# Altium footprint library con-thomas-betts.PCBLIB: 58 footprints (part 3 of 4)
Each footprint in its own frame and in the unit in brackets; x right, y up, seen from the top. Pads: shape width x height; smd on the part's side, far side on the other; paste and mask are expansions set on the pad; w line width, h text height; cw(c..) or ccw(c..) is an arc to the next point about the centre after c.
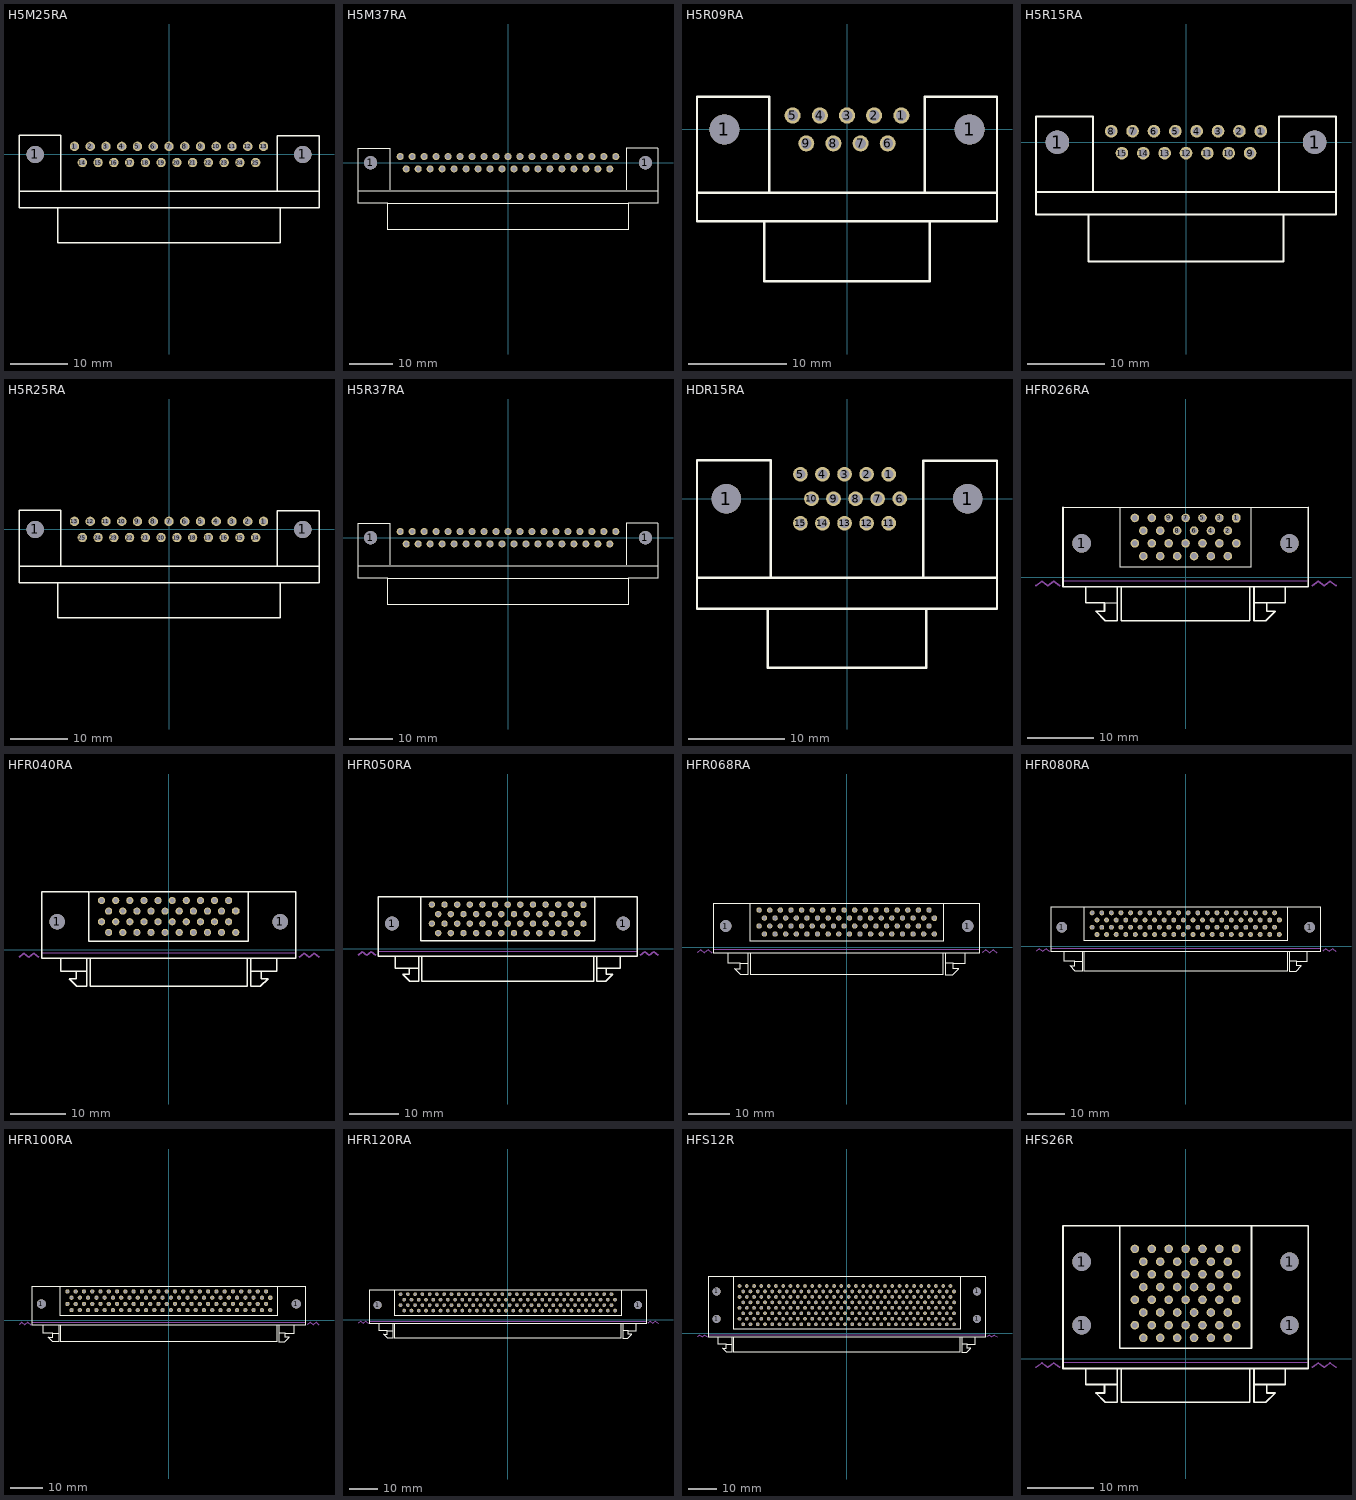
[diagram p2: the footprints below, top view; thin cyan lines are the x and y axes]

## H5M25RA [mil]
pads (27):
  round 120 hole 120: 1(-926,0) 1(926,0)
  round 64.5 hole 43: 1(-654,56) 2(-545,56) 3(-436,56) 4(-327,56) 5(-218,56) 6(-109,56) 7(0,56) 8(109,56) 9(218,56) 10(327,56) 11(436,56) 12(545,56) 13(654,56) 14(-599.5,-56) 15(-490.5,-56) 16(-381.5,-56) 17(-272.5,-56) 18(-163.5,-56) 19(-54.5,-56) 20(54.5,-56) 21(163.5,-56) 22(272.5,-56) 23(381.5,-56) 24(490.5,-56) 25(599.5,-56)
Top Overlay:
  lines w10: -1038,-253.5 1038,-253.5 ; -748,-248 -748,131.5 -1038,131.5 -1038,-368.5 -769,-368.5 ; 748,-248 748,130.5 1038,130.5 1038,-368.5 769,-368.5 ; -769,-368.5 -769,-609.5 769,-609.5 769,-368.5 ; -769,-368.5 769,-368.5

## H5M37RA [mil]
pads (39):
  round 120 hole 120: 1(-1250,0) 1(1250,0)
  round 64.5 hole 43: 1(-981,56) 2(-872,56) 3(-763,56) 4(-654,56) 5(-545,56) 6(-436,56) 7(-327,56) 8(-218,56) 9(-109,56) 10(0,56) 11(109,56) 12(218,56) 13(327,56) 14(436,56) 15(545,56) 16(654,56) 17(763,56) 18(872,56) 19(981,56) 20(-926.5,-56) 21(-817.5,-56) 22(-708.5,-56) 23(-599.5,-56) 24(-490.5,-56) 25(-381.5,-56) 26(-272.5,-56) 27(-163.5,-56) 28(-54.5,-56) 29(54.5,-56) 30(163.5,-56) 31(272.5,-56) 32(381.5,-56) 33(490.5,-56) 34(599.5,-56) 35(708.5,-56) 36(817.5,-56) 37(926.5,-56)
Top Overlay:
  lines w10: -1365,-253.5 1365,-253.5 ; -1075,-248 -1075,131.5 -1365,131.5 -1365,-368.5 -1096,-368.5 ; 1075,-248 1075,130.5 1365,130.5 1365,-368.5 1096,-368.5 ; -1096,-368.5 -1096,-609.5 1096,-609.5 1096,-368.5 ; -1096,-368.5 1096,-368.5

## H5R09RA [mil]
pads (11):
  round 120 hole 120: 1(-492,0) 1(492,0)
  round 64.5 hole 43: 1(218,56) 2(109,56) 3(0,56) 4(-109,56) 5(-218,56) 6(163.5,-56) 7(54.5,-56) 8(-54.5,-56) 9(-163.5,-56)
Top Overlay:
  lines w10: -602,-253.5 602,-253.5 ; -312,-248 -312,131.5 -602,131.5 -602,-368.5 -333,-368.5 ; 312,-248 312,130.5 602,130.5 602,-368.5 333,-368.5 ; -333,-368.5 -333,-609.5 333,-609.5 333,-368.5 ; -333,-368.5 333,-368.5

## H5R15RA [mil]
pads (17):
  round 120 hole 120: 1(-656,0) 1(656,0)
  round 64.5 hole 43: 1(381.5,56) 2(272.5,56) 3(163.5,56) 4(54.5,56) 5(-54.5,56) 6(-163.5,56) 7(-272.5,56) 8(-381.5,56) 9(327,-56) 10(218,-56) 11(109,-56) 12(0,-56) 13(-109,-56) 14(-218,-56) 15(-327,-56)
Top Overlay:
  lines w10: -765.5,-253.5 765.5,-253.5 ; -475.5,-248 -475.5,131.5 -765.5,131.5 -765.5,-368.5 -496.5,-368.5 ; 475.5,-248 475.5,130.5 765.5,130.5 765.5,-368.5 496.5,-368.5 ; -496.5,-368.5 -496.5,-609.5 496.5,-609.5 496.5,-368.5 ; -496.5,-368.5 496.5,-368.5

## H5R25RA [mil]
pads (27):
  round 120 hole 120: 1(-926,0) 1(926,0)
  round 64.5 hole 43: 1(654,56) 2(545,56) 3(436,56) 4(327,56) 5(218,56) 6(109,56) 7(0,56) 8(-109,56) 9(-218,56) 10(-327,56) 11(-436,56) 12(-545,56) 13(-654,56) 14(599.5,-56) 15(490.5,-56) 16(381.5,-56) 17(272.5,-56) 18(163.5,-56) 19(54.5,-56) 20(-54.5,-56) 21(-163.5,-56) 22(-272.5,-56) 23(-381.5,-56) 24(-490.5,-56) 25(-599.5,-56)
Top Overlay:
  lines w10: -1038,-253.5 1038,-253.5 ; -748,-248 -748,131.5 -1038,131.5 -1038,-368.5 -769,-368.5 ; 748,-248 748,130.5 1038,130.5 1038,-368.5 769,-368.5 ; -769,-368.5 -769,-609.5 769,-609.5 769,-368.5 ; -769,-368.5 769,-368.5

## H5R37RA [mil]
pads (39):
  round 120 hole 120: 1(-1250,0) 1(1250,0)
  round 64.5 hole 43: 1(981,56) 2(872,56) 3(763,56) 4(654,56) 5(545,56) 6(436,56) 7(327,56) 8(218,56) 9(109,56) 10(0,56) 11(-109,56) 12(-218,56) 13(-327,56) 14(-436,56) 15(-545,56) 16(-654,56) 17(-763,56) 18(-872,56) 19(-981,56) 20(926.5,-56) 21(817.5,-56) 22(708.5,-56) 23(599.5,-56) 24(490.5,-56) 25(381.5,-56) 26(272.5,-56) 27(163.5,-56) 28(54.5,-56) 29(-54.5,-56) 30(-163.5,-56) 31(-272.5,-56) 32(-381.5,-56) 33(-490.5,-56) 34(-599.5,-56) 35(-708.5,-56) 36(-817.5,-56) 37(-926.5,-56)
Top Overlay:
  lines w10: -1365,-253.5 1365,-253.5 ; -1075,-248 -1075,131.5 -1365,131.5 -1365,-368.5 -1096,-368.5 ; 1075,-248 1075,130.5 1365,130.5 1365,-368.5 1096,-368.5 ; -1096,-368.5 -1096,-609.5 1096,-609.5 1096,-368.5 ; -1096,-368.5 1096,-368.5

## HDR15RA [mil]
pads (17):
  round 120 hole 120: 1(-492,0) 1(492,0)
  round 60 hole 40: 1(170,100) 2(80,100) 3(-10,100) 4(-100,100) 5(-190,100) 6(215,0) 7(125,0) 8(35,0) 9(-55,0) 10(-145,0) 11(170,-100) 12(80,-100) 13(-10,-100) 14(-100,-100) 15(-190,-100)
Top Overlay:
  lines w10: -312,-318 -312,156.5 -612,156.5 -612,-323.5 ; 312,-318 312,155.5 612,155.5 612,-323.5 ; -612,-323.5 -612,-448.5 -323,-448.5 ; -612,-323.5 612,-323.5 ; -323,-448.5 -323,-689.5 323,-689.5 323,-448.5 ; -323,-448.5 323,-448.5 ; 323,-448.5 612,-448.5 612,-323.5

## HFR026RA [mil]
pads (28):
  round 109 hole 109: 1(-615,199.61) 1(615,199.61)
  oct 51x51 hole 34: 1(300,350)
  round 51 hole 34: 2(250,274.8) 3(200,350) 4(150,274.8) 5(100,350) 6(50,274.8) 7(0,350) 8(-50,274.8) 9(-100,350) 10(-150,274.8) 11(-200,350) 12(-250,274.8) 13(-300,350) 14(300,199.61) 15(250,124.41) 16(200,199.61) 17(150,124.41) 18(100,199.61) 19(50,124.41) 20(0,199.61) 21(-50,124.41) 22(-100,199.61) 23(-150,124.41) 24(-200,199.61) 25(-250,124.41) 26(-300,199.61)
Top Overlay:
  lines w6: -725,412.5 -390,412.5 -390,62.5 390,62.5 390,412.5 725,412.5 ; -480,-152.5 -410,-152.5 ; -385,412.5 385,412.5
  lines w10: -725,412.5 -725,-57.5 725,-57.5 725,412.5 ; -590,-62.5 -590,-152.5 -480,-152.5 -480,-202.5 -530,-202.5 -475,-257.5 -405,-257.5 -405,-62.5 ; -380,-62.5 -380,-257.5 380,-257.5 380,-62.5 ; 405,-62.5 405,-257.5 475,-257.5 530,-202.5 480,-202.5 480,-152.5 ; 410,-152.5 480,-152.5 ; 590,-62.5 590,-152.5 480,-152.5
Mechanical 13:
  lines w10: -885,-50 -850,-25 -815,-50 -780,-25 -745,-50 ; 750,-50 785,-25 820,-50 855,-25 890,-50
  text "PCB" at 890,-62.5 h77.5
  text "PCB" at -745,-62.5 h77.5
Mechanical 14:
  lines w0: -725,-21 720,-21

## HFR040RA [mil]
pads (42):
  round 109 hole 109: 1(-790,199.61) 1(790,199.61)
  oct 51x51 hole 34: 1(475,274.8)
  round 51 hole 34: 2(425,350) 3(375,274.8) 4(325,350) 5(275,274.8) 6(225,350) 7(175,274.8) 8(125,350) 9(75,274.8) 10(25,350) 11(-25,274.8) 12(-75,350) 13(-125,274.8) 14(-175,350) 15(-225,274.8) 16(-275,350) 17(-325,274.8) 18(-375,350) 19(-425,274.8) 20(-475,350) 21(475,124.41) 22(425,199.61) 23(375,124.41) 24(325,199.61) 25(275,124.41) 26(225,199.61) 27(175,124.41) 28(125,199.61) 29(75,124.41) 30(25,199.61) 31(-25,124.41) 32(-75,199.61) 33(-125,124.41) 34(-175,199.61) 35(-225,124.41) 36(-275,199.61) 37(-325,124.41) 38(-375,199.61) 39(-425,124.41) 40(-475,199.61)
Top Overlay:
  lines w10: -765,-62.5 -765,-152.5 -655,-152.5 ; -585,-152.5 -655,-152.5 ; -580,-62.5 -580,-257.5 -650,-257.5 -705,-202.5 -655,-202.5 -655,-152.5 ; -560,412.5 560,412.5 ; -555,-62.5 -555,-257.5 555,-257.5 555,-62.5 ; 580,-62.5 580,-257.5 650,-257.5 705,-202.5 655,-202.5 655,-152.5 ; 585,-152.5 655,-152.5 ; 765,-62.5 765,-152.5 655,-152.5 ; -900,-57.5 900,-57.5 900,412.5 565,412.5 565,62.5 -565,62.5 -565,412.5 -900,412.5 -900,-57.5
Mechanical 13:
  lines w10: -1060,-50 -1025,-25 -990,-50 -955,-25 -920,-50 ; 925,-50 960,-25 995,-50 1030,-25 1065,-50
  text "PCB" at 1065,-62.5 h77.5
  text "PCB" at -920,-62.5 h77.5
Mechanical 14:
  lines w0: -900,-21 895,-21

## HFR050RA [mil]
pads (52):
  round 109 hole 109: 1(-915,199.61) 1(915,199.61)
  oct 51x51 hole 34: 1(600,350)
  round 51 hole 34: 2(550,274.8) 3(500,350) 4(450,274.8) 5(400,350) 6(350,274.8) 7(300,350) 8(250,274.8) 9(200,350) 10(150,274.8) 11(100,350) 12(50,274.8) 13(0,350) 14(-50,274.8) 15(-100,350) 16(-150,274.8) 17(-200,350) 18(-250,274.8) 19(-300,350) 20(-350,274.8) 21(-400,350) 22(-450,274.8) 23(-500,350) 24(-550,274.8) 25(-600,350) 26(600,199.61) 27(550,124.41) 28(500,199.61) 29(450,124.41) 30(400,199.61) 31(350,124.41) 32(300,199.61) 33(250,124.41) 34(200,199.61) 35(150,124.41) 36(100,199.61) 37(50,124.41) 38(0,199.61) 39(-50,124.41) 40(-100,199.61) 41(-150,124.41) 42(-200,199.61) 43(-250,124.41) 44(-300,199.61) 45(-350,124.41) 46(-400,199.61) 47(-450,124.41) 48(-500,199.61) 49(-550,124.41) 50(-600,199.61)
Top Overlay:
  lines w10: -890,-62.5 -890,-152.5 -780,-152.5 ; -710,-152.5 -780,-152.5 ; -705,-62.5 -705,-257.5 -775,-257.5 -830,-202.5 -780,-202.5 -780,-152.5 ; -685,412.5 685,412.5 ; -680,-62.5 -680,-257.5 680,-257.5 680,-62.5 ; 705,-62.5 705,-257.5 775,-257.5 830,-202.5 780,-202.5 780,-152.5 ; 710,-152.5 780,-152.5 ; 890,-62.5 890,-152.5 780,-152.5 ; -1025,-57.5 1025,-57.5 1025,412.5 690,412.5 690,62.5 -690,62.5 -690,412.5 -1025,412.5 -1025,-57.5
Mechanical 13:
  lines w10: -1185,-50 -1150,-25 -1115,-50 -1080,-25 -1045,-50 ; 1050,-50 1085,-25 1120,-50 1155,-25 1190,-50
  text "PCB" at 1190,-62.5 h77.5
  text "PCB" at -1045,-62.5 h77.5
Mechanical 14:
  lines w0: -1025,-21 1020,-21

## HFR068RA [mil]
pads (70):
  round 109 hole 109: 1(-1140,199.61) 1(1140,199.61)
  oct 51x51 hole 34: 1(825,274.8)
  round 51 hole 34: 2(775,350) 3(725,274.8) 4(675,350) 5(625,274.8) 6(575,350) 7(525,274.8) 8(475,350) 9(425,274.8) 10(375,350) 11(325,274.8) 12(275,350) 13(225,274.8) 14(175,350) 15(125,274.8) 16(75,350) 17(25,274.8) 18(-25,350) 19(-75,274.8) 20(-125,350) 21(-175,274.8) 22(-225,350) 23(-275,274.8) 24(-325,350) 25(-375,274.8) 26(-425,350) 27(-475,274.8) 28(-525,350) 29(-575,274.8) 30(-625,350) 31(-675,274.8) 32(-725,350) 33(-775,274.8) 34(-825,350) 35(825,124.41) 36(775,199.61) 37(725,124.41) 38(675,199.61) 39(625,124.41) 40(575,199.61) 41(525,124.41) 42(475,199.61) 43(425,124.41) 44(375,199.61) 45(325,124.41) 46(275,199.61) 47(225,124.41) 48(175,199.61) 49(125,124.41) 50(75,199.61) 51(25,124.41) 52(-25,199.61) 53(-75,124.41) 54(-125,199.61) 55(-175,124.41) 56(-225,199.61) 57(-275,124.41) 58(-325,199.61) 59(-375,124.41) 60(-425,199.61) 61(-475,124.41) 62(-525,199.61) 63(-575,124.41) 64(-625,199.61) 65(-675,124.41) 66(-725,199.61) 67(-775,124.41) 68(-825,199.61)
Top Overlay:
  lines w10: -1115,-62.5 -1115,-152.5 -1005,-152.5 ; -935,-152.5 -1005,-152.5 ; -930,-62.5 -930,-257.5 -1000,-257.5 -1055,-202.5 -1005,-202.5 -1005,-152.5 ; -910,412.5 910,412.5 ; -905,-62.5 -905,-257.5 905,-257.5 905,-62.5 ; 930,-62.5 930,-257.5 1000,-257.5 1055,-202.5 1005,-202.5 1005,-152.5 ; 935,-152.5 1005,-152.5 ; 1115,-62.5 1115,-152.5 1005,-152.5 ; -1250,-57.5 1250,-57.5 1250,412.5 915,412.5 915,62.5 -915,62.5 -915,412.5 -1250,412.5 -1250,-57.5
Mechanical 13:
  lines w10: -1410,-50 -1375,-25 -1340,-50 -1305,-25 -1270,-50 ; 1275,-50 1310,-25 1345,-50 1380,-25 1415,-50
  text "PCB" at 1415,-62.5 h77.5
  text "PCB" at -1270,-62.5 h77.5
Mechanical 14:
  lines w0: -1250,-21 1245,-21

## HFR080RA [mil]
pads (82):
  round 109 hole 109: 1(-1290,199.61) 1(1290,199.61)
  oct 51x51 hole 34: 1(975,274.8)
  round 51 hole 34: 2(925,350) 3(875,274.8) 4(825,350) 5(775,274.8) 6(725,350) 7(675,274.8) 8(625,350) 9(575,274.8) 10(525,350) 11(475,274.8) 12(425,350) 13(375,274.8) 14(325,350) 15(275,274.8) 16(225,350) 17(175,274.8) 18(125,350) 19(75,274.8) 20(25,350) 21(-25,274.8) 22(-75,350) 23(-125,274.8) 24(-175,350) 25(-225,274.8) 26(-275,350) 27(-325,274.8) 28(-375,350) 29(-425,274.8) 30(-475,350) 31(-525,274.8) 32(-575,350) 33(-625,274.8) 34(-675,350) 35(-725,274.8) 36(-775,350) 37(-825,274.8) 38(-875,350) 39(-925,274.8) 40(-975,350) 41(975,124.8) 42(925,199.61) 43(875,124.8) 44(825,199.61) 45(775,124.8) 46(725,199.61) 47(675,124.8) 48(625,199.61) 49(575,124.8) 50(525,199.61) 51(475,124.8) 52(425,199.61) 53(375,124.8) 54(325,199.61) 55(275,124.8) 56(225,199.61) 57(175,124.8) 58(125,199.61) 59(75,124.8) 60(25,199.61) 61(-25,124.8) 62(-75,199.61) 63(-125,124.8) 64(-175,199.61) 65(-225,124.8) 66(-275,199.61) 67(-325,124.8) 68(-375,199.61) 69(-425,124.8) 70(-475,199.61) 71(-525,124.8) 72(-575,199.61) 73(-625,124.8) 74(-675,199.61) 75(-725,124.8) 76(-775,199.61) 77(-825,124.8) 78(-875,199.61) 79(-925,124.8) 80(-975,199.61)
Top Overlay:
  lines w10: -1265,-62.5 -1265,-152.5 -1155,-152.5 ; -1085,-152.5 -1155,-152.5 ; -1080,-62.5 -1080,-257.5 -1150,-257.5 -1205,-202.5 -1155,-202.5 -1155,-152.5 ; -1060,412.5 1060,412.5 ; -1055,-62.5 -1055,-257.5 1055,-257.5 1055,-62.5 ; 1080,-62.5 1080,-257.5 1150,-257.5 1205,-202.5 1155,-202.5 1155,-152.5 ; 1085,-152.5 1155,-152.5 ; 1265,-62.5 1265,-152.5 1155,-152.5 ; -1400,-57.5 1400,-57.5 1400,412.5 1065,412.5 1065,62.5 -1065,62.5 -1065,412.5 -1400,412.5 -1400,-57.5
Mechanical 13:
  lines w10: -1560,-50 -1525,-25 -1490,-50 -1455,-25 -1420,-50 ; 1425,-50 1460,-25 1495,-50 1530,-25 1565,-50
  text "PCB" at 1565,-62.5 h77.5
  text "PCB" at -1420,-62.5 h77.5
Mechanical 14:
  lines w0: -1400,-21 1395,-21

## HFR100RA [mil]
pads (102):
  round 109 hole 109: 1(-1540,199.61) 1(1540,199.61)
  oct 51x51 hole 34: 1(1225,274.8)
  round 51 hole 34: 2(1175,350) 3(1125,274.8) 4(1075,350) 5(1025,274.8) 6(975,350) 7(925,274.8) 8(875,350) 9(825,274.8) 10(775,350) 11(725,274.8) 12(675,350) 13(625,274.8) 14(575,350) 15(525,274.8) 16(475,350) 17(425,274.8) 18(375,350) 19(325,274.8) 20(275,350) 21(225,274.8) 22(175,350) 23(125,274.8) 24(75,350) 25(25,274.8) 26(-25,350) 27(-75,274.8) 28(-125,350) 29(-175,274.8) 30(-225,350) 31(-275,274.8) 32(-325,350) 33(-375,274.8) 34(-425,350) 35(-475,274.8) 36(-525,350) 37(-575,274.8) 38(-625,350) 39(-675,274.8) 40(-725,350) 41(-775,274.8) 42(-825,350) 43(-875,274.8) 44(-925,350) 45(-975,274.8) 46(-1025,350) 47(-1075,274.8) 48(-1125,350) 49(-1175,274.8) 50(-1225,350) 51(1225,124.41) 52(1175,199.61) 53(1125,124.41) 54(1075,199.61) 55(1025,124.41) 56(975,199.61) 57(925,124.41) 58(875,199.61) 59(825,124.41) 60(775,199.61) 61(725,124.41) 62(675,199.61) 63(625,124.41) 64(575,199.61) 65(525,124.41) 66(475,199.61) 67(425,124.41) 68(375,199.61) 69(325,124.41) 70(275,199.61) 71(225,124.41) 72(175,199.61) 73(125,124.41) 74(75,199.61) 75(25,124.41) 76(-25,199.61) 77(-75,124.41) 78(-125,199.61) 79(-175,124.41) 80(-225,199.61) 81(-275,124.41) 82(-325,199.61) 83(-375,124.41) 84(-425,199.61) 85(-475,124.41) 86(-525,199.61) 87(-575,124.41) 88(-625,199.61) 89(-675,124.41) 90(-725,199.61) 91(-775,124.41) 92(-825,199.61) 93(-875,124.41) 94(-925,199.61) 95(-975,124.41) 96(-1025,199.61) 97(-1075,124.41) 98(-1125,199.61) 99(-1175,124.41) 100(-1225,199.61)
Top Overlay:
  lines w10: -1515,-62.5 -1515,-152.5 -1405,-152.5 ; -1335,-152.5 -1405,-152.5 ; -1330,-62.5 -1330,-257.5 -1400,-257.5 -1455,-202.5 -1405,-202.5 -1405,-152.5 ; -1310,412.5 1310,412.5 ; -1305,-62.5 -1305,-257.5 1305,-257.5 1305,-62.5 ; 1330,-62.5 1330,-257.5 1400,-257.5 1455,-202.5 1405,-202.5 1405,-152.5 ; 1335,-152.5 1405,-152.5 ; 1515,-62.5 1515,-152.5 1405,-152.5 ; -1650,-57.5 1650,-57.5 1650,412.5 1315,412.5 1315,62.5 -1315,62.5 -1315,412.5 -1650,412.5 -1650,-57.5
Mechanical 13:
  lines w10: -1810,-50 -1775,-25 -1740,-50 -1705,-25 -1670,-50 ; 1675,-50 1710,-25 1745,-50 1780,-25 1815,-50
  text "PCB" at 1815,-62.5 h77.5
  text "PCB" at -1670,-62.5 h77.5
Mechanical 14:
  lines w0: -1650,-21 1645,-21

## HFR120RA [mil]
pads (122):
  round 109 hole 109: 1(-1790,199.61) 1(1790,199.61)
  oct 51x51 hole 34: 1(1475,274.8)
  round 51 hole 34: 2(1425,350) 3(1375,274.8) 4(1325,350) 5(1275,274.8) 6(1225,350) 7(1175,274.8) 8(1125,350) 9(1075,274.8) 10(1025,350) 11(975,274.8) 12(925,350) 13(875,274.8) 14(825,350) 15(775,274.8) 16(725,350) 17(675,274.8) 18(625,350) 19(575,274.8) 20(525,350) 21(475,274.8) 22(425,350) 23(375,274.8) 24(325,350) 25(275,274.8) 26(225,350) 27(175,274.8) 28(125,350) 29(75,274.8) 30(25,350) 31(-25,274.8) 32(-75,350) 33(-125,274.8) 34(-175,350) 35(-225,274.8) 36(-275,350) 37(-325,274.8) 38(-375,350) 39(-425,274.8) 40(-475,350) 41(-525,274.8) 42(-575,350) 43(-625,274.8) 44(-675,350) 45(-725,274.8) 46(-775,350) 47(-825,274.8) 48(-875,350) 49(-925,274.8) 50(-975,350) 51(-1025,274.8) 52(-1075,350) 53(-1125,274.8) 54(-1175,350) 55(-1225,274.8) 56(-1275,350) 57(-1325,274.8) 58(-1375,350) 59(-1425,274.8) 60(-1475,350) 61(1475,124.41) 62(1425,199.61) 63(1375,124.41) 64(1325,199.61) 65(1275,124.41) 66(1225,199.61) 67(1175,124.41) 68(1125,199.61) 69(1075,124.41) 70(1025,199.61) 71(975,124.41) 72(925,199.61) 73(875,124.41) 74(825,199.61) 75(775,124.41) 76(725,199.61) 77(675,124.41) 78(625,199.61) 79(575,124.41) 80(525,199.61) 81(475,124.41) 82(425,199.61) 83(375,124.41) 84(325,199.61) 85(275,124.41) 86(225,199.61) 87(175,124.41) 88(125,199.61) 89(75,124.41) 90(25,199.61) 91(-25,124.41) 92(-75,199.61) 93(-125,124.41) 94(-175,199.61) 95(-225,124.41) 96(-275,199.61) 97(-325,124.41) 98(-375,199.61) 99(-425,124.41) 100(-475,199.61) 101(-525,124.41) 102(-575,199.61) 103(-625,124.41) 104(-675,199.61) 105(-725,124.41) 106(-775,199.61) 107(-825,124.41) 108(-875,199.61) 109(-925,124.41) 110(-975,199.61) 111(-1025,124.41) 112(-1075,199.61) 113(-1125,124.41) 114(-1175,199.61) 115(-1225,124.41) 116(-1275,199.61) 117(-1325,124.41) 118(-1375,199.61) 119(-1425,124.41) 120(-1475,199.61)
Top Overlay:
  lines w10: -1765,-62.5 -1765,-152.5 -1655,-152.5 ; -1585,-152.5 -1655,-152.5 ; -1580,-62.5 -1580,-257.5 -1650,-257.5 -1705,-202.5 -1655,-202.5 -1655,-152.5 ; -1560,412.5 1560,412.5 ; -1555,-62.5 -1555,-257.5 1555,-257.5 1555,-62.5 ; 1580,-62.5 1580,-257.5 1650,-257.5 1705,-202.5 1655,-202.5 1655,-152.5 ; 1585,-152.5 1655,-152.5 ; 1765,-62.5 1765,-152.5 1655,-152.5 ; -1900,-57.5 1900,-57.5 1900,412.5 1565,412.5 1565,62.5 -1565,62.5 -1565,412.5 -1900,412.5 -1900,-57.5
Mechanical 13:
  lines w10: -2060,-50 -2025,-25 -1990,-50 -1955,-25 -1920,-50 ; 1925,-50 1960,-25 1995,-50 2030,-25 2065,-50
  text "PCB" at 2065,-62.5 h77.5
  text "PCB" at -1920,-62.5 h77.5
Mechanical 14:
  lines w0: -1900,-21 1895,-21

## HFS12R [mil]
pads (244):
  round 109 hole 109: 1(-1790,198.82) 1(-1790,574.8) 1(1790,198.82) 1(1790,574.8)
  oct 51x51 hole 34: 1-1(1475,274.02) 2-1(1475,574.8)
  round 51 hole 34: 1-2(1425,349.21) 1-3(1375,274.02) 1-4(1325,349.21) 1-5(1275,274.02) 1-6(1225,349.21) 1-7(1175,274.02) 1-8(1125,349.21) 1-9(1075,274.02) 1-10(1025,349.21) 1-11(975,274.02) 1-12(925,349.21) 1-13(875,274.02) 1-14(825,349.21) 1-15(775,274.02) 1-16(725,349.21) 1-17(675,274.02) 1-18(625,349.21) 1-19(575,274.02) 1-20(525,349.21) 1-21(475,274.02) 1-22(425,349.21) 1-23(375,274.02) 1-24(325,349.21) 1-25(275,274.02) 1-26(225,349.21) 1-27(175,274.02) 1-28(125,349.21) 1-29(75,274.02) 1-30(25,349.21) 1-31(-25,274.02) 1-32(-75,349.21) 1-33(-125,274.02) 1-34(-175,349.21) 1-35(-225,274.02) 1-36(-275,349.21) 1-37(-325,274.02) 1-38(-375,349.21) 1-39(-425,274.02) 1-40(-475,349.21) 1-41(-525,274.02) 1-42(-575,349.21) 1-43(-625,274.02) 1-44(-675,349.21) 1-45(-725,274.02) 1-46(-775,349.21) 1-47(-825,274.02) 1-48(-875,349.21) 1-49(-925,274.02) 1-50(-975,349.21) 1-51(-1025,274.02) 1-52(-1075,349.21) 1-53(-1125,274.02) 1-54(-1175,349.21) 1-55(-1225,274.02) 1-56(-1275,349.21) 1-57(-1325,274.02) 1-58(-1375,349.21) 1-59(-1425,274.02) 1-60(-1475,349.21) 1-61(1475,123.62) 1-62(1425,198.82) 1-63(1375,123.62) 1-64(1325,198.82) 1-65(1275,123.62) 1-66(1225,198.82) 1-67(1175,123.62) 1-68(1125,198.82) 1-69(1075,123.62) 1-70(1025,198.82) 1-71(975,123.62) 1-72(925,198.82) 1-73(875,123.62) 1-74(825,198.82) 1-75(775,123.62) 1-76(725,198.82) 1-77(675,123.62) 1-78(625,198.82) 1-79(575,123.62) 1-80(525,198.82) 1-81(475,123.62) 1-82(425,198.82) 1-83(375,123.62) 1-84(325,198.82) 1-85(275,123.62) 1-86(225,198.82) 1-87(175,123.62) 1-88(125,198.82) 1-89(75,123.62) 1-90(25,198.82) 1-91(-25,123.62) 1-92(-75,198.82) 1-93(-125,123.62) 1-94(-175,198.82) 1-95(-225,123.62) 1-96(-275,198.82) 1-97(-325,123.62) 1-98(-375,198.82) 1-99(-425,123.62) 1-100(-475,198.82) 1-101(-525,123.62) 1-102(-575,198.82) 1-103(-625,123.62) 1-104(-675,198.82) 1-105(-725,123.62) 1-106(-775,198.82) 1-107(-825,123.62) 1-108(-875,198.82) 1-109(-925,123.62) 1-110(-975,198.82) 1-111(-1025,123.62) 1-112(-1075,198.82) 1-113(-1125,123.62) 1-114(-1175,198.82) 1-115(-1225,123.62) 1-116(-1275,198.82) 1-117(-1325,123.62) 1-118(-1375,198.82) 1-119(-1425,123.62) 1-120(-1475,198.82) 2-2(1425,650) 2-3(1375,574.8) 2-4(1325,650) 2-5(1275,574.8) 2-6(1225,650) 2-7(1175,574.8) 2-8(1125,650) 2-9(1075,574.8) 2-10(1025,650) 2-11(975,574.8) 2-12(925,650) 2-13(875,574.8) 2-14(825,650) 2-15(775,574.8) 2-16(725,650) 2-17(675,574.8) 2-18(625,650) 2-19(575,574.8) 2-20(525,650) 2-21(475,574.8) 2-22(425,650) 2-23(375,574.8) 2-24(325,650) 2-25(275,574.8) 2-26(225,650) 2-27(175,574.8) 2-28(125,650) 2-29(75,574.8) 2-30(25,650) 2-31(-25,574.8) 2-32(-75,650) 2-33(-125,574.8) 2-34(-175,650) 2-35(-225,574.8) 2-36(-275,650) 2-37(-325,574.8) 2-38(-375,650) 2-39(-425,574.8) 2-40(-475,650) 2-41(-525,574.8) 2-42(-575,650) 2-43(-625,574.8) 2-44(-675,650) 2-45(-725,574.8) 2-46(-775,650) 2-47(-825,574.8) 2-48(-875,650) 2-49(-925,574.8) 2-50(-975,650) 2-51(-1025,574.8) 2-52(-1075,650) 2-53(-1125,574.8) 2-54(-1175,650) 2-55(-1225,574.8) 2-56(-1275,650) 2-57(-1325,574.8) 2-58(-1375,650) 2-59(-1425,574.8) 2-60(-1475,650) 2-61(1475,424.41) 2-62(1425,499.61) 2-63(1375,424.41) 2-64(1325,499.61) 2-65(1275,424.41) 2-66(1225,499.61) 2-67(1175,424.41) 2-68(1125,499.61) 2-69(1075,424.41) 2-70(1025,499.61) 2-71(975,424.41) 2-72(925,499.61) 2-73(875,424.41) 2-74(825,499.61) 2-75(775,424.41) 2-76(725,499.61) 2-77(675,424.41) 2-78(625,499.61) 2-79(575,424.41) 2-80(525,499.61) 2-81(475,424.41) 2-82(425,499.61) 2-83(375,424.41) 2-84(325,499.61) 2-85(275,424.41) 2-86(225,499.61) 2-87(175,424.41) 2-88(125,499.61) 2-89(75,424.41) 2-90(25,499.61) 2-91(-25,424.41) 2-92(-75,499.61) 2-93(-125,424.41) 2-94(-175,499.61) 2-95(-225,424.41) 2-96(-275,499.61) 2-97(-325,424.41) 2-98(-375,499.61) 2-99(-425,424.41) 2-100(-475,499.61) 2-101(-525,424.41) 2-102(-575,499.61) 2-103(-625,424.41) 2-104(-675,499.61) 2-105(-725,424.41) 2-106(-775,499.61) 2-107(-825,424.41) 2-108(-875,499.61) 2-109(-925,424.41) 2-110(-975,499.61) 2-111(-1025,424.41) 2-112(-1075,499.61) 2-113(-1125,424.41) 2-114(-1175,499.61) 2-115(-1225,424.41) 2-116(-1275,499.61) 2-117(-1325,424.41) 2-118(-1375,499.61) 2-119(-1425,424.41) 2-120(-1475,499.61)
Top Overlay:
  lines w10: -1765,-62.5 -1765,-152.5 -1655,-152.5 ; -1585,-152.5 -1655,-152.5 ; -1580,-62.5 -1580,-257.5 -1650,-257.5 -1705,-202.5 -1655,-202.5 -1655,-152.5 ; -1560,787.5 1560,787.5 ; -1555,-62.5 -1555,-257.5 1555,-257.5 1555,-62.5 ; 1580,-62.5 1580,-257.5 1650,-257.5 1705,-202.5 1655,-202.5 1655,-152.5 ; 1585,-152.5 1655,-152.5 ; 1765,-62.5 1765,-152.5 1655,-152.5 ; -1900,-57.5 1900,-57.5 1900,787.5 1565,787.5 1565,62.5 -1565,62.5 -1565,787.5 -1900,787.5 -1900,-57.5
Mechanical 13:
  lines w10: -2060,-50 -2025,-25 -1990,-50 -1955,-25 -1920,-50 ; 1925,-50 1960,-25 1995,-50 2030,-25 2065,-50
  text "PCB" at 2065,-62.5 h77.5
  text "PCB" at -1920,-62.5 h77.5
Mechanical 14:
  lines w0: -1900,-21 1895,-21

## HFS26R [mil]
pads (56):
  round 109 hole 109: 1(-615,198.82) 1(-615,574.8) 1(615,198.82) 1(615,574.8)
  oct 51x51 hole 34: 1-1(300,349.21) 2-1(300,650)
  round 51 hole 34: 1-2(250,274.02) 1-3(200,349.21) 1-4(150,274.02) 1-5(100,349.21) 1-6(50,274.02) 1-7(0,349.21) 1-8(-50,274.02) 1-9(-100,349.21) 1-10(-150,274.02) 1-11(-200,349.21) 1-12(-250,274.02) 1-13(-300,349.21) 1-14(300,198.82) 1-15(250,123.62) 1-16(200,198.82) 1-17(150,123.62) 1-18(100,198.82) 1-19(50,123.62) 1-20(0,198.82) 1-21(-50,123.62) 1-22(-100,198.82) 1-23(-150,123.62) 1-24(-200,198.82) 1-25(-250,123.62) 1-26(-300,198.82) 2-2(250,574.8) 2-3(200,650) 2-4(150,574.8) 2-5(100,650) 2-6(50,574.8) 2-7(0,650) 2-8(-50,574.8) 2-9(-100,650) 2-10(-150,574.8) 2-11(-200,650) 2-12(-250,574.8) 2-13(-300,650) 2-14(300,499.61) 2-15(250,424.41) 2-16(200,499.61) 2-17(150,424.41) 2-18(100,499.61) 2-19(50,424.41) 2-20(0,499.61) 2-21(-50,424.41) 2-22(-100,499.61) 2-23(-150,424.41) 2-24(-200,499.61) 2-25(-250,424.41) 2-26(-300,499.61)
Top Overlay:
  lines w10: -590,-62.5 -590,-152.5 -480,-152.5 ; -410,-152.5 -480,-152.5 ; -405,-62.5 -405,-257.5 -475,-257.5 -530,-202.5 -480,-202.5 -480,-152.5 ; -385,787.5 385,787.5 ; -380,-62.5 -380,-257.5 380,-257.5 380,-62.5 ; 405,-62.5 405,-257.5 475,-257.5 530,-202.5 480,-202.5 480,-152.5 ; 410,-152.5 480,-152.5 ; 590,-62.5 590,-152.5 480,-152.5 ; -725,-57.5 725,-57.5 725,787.5 390,787.5 390,62.5 -390,62.5 -390,787.5 -725,787.5 -725,-57.5
Mechanical 13:
  lines w10: -885,-50 -850,-25 -815,-50 -780,-25 -745,-50 ; 750,-50 785,-25 820,-50 855,-25 890,-50
  text "PCB" at 890,-62.5 h77.5
  text "PCB" at -745,-62.5 h77.5
Mechanical 14:
  lines w0: -725,-21 720,-21